# Altium schematic symbol library 常用库.SCHLIB: 15 symbols
Pins are listed as number, name and electrical type; pins without a type are passive.

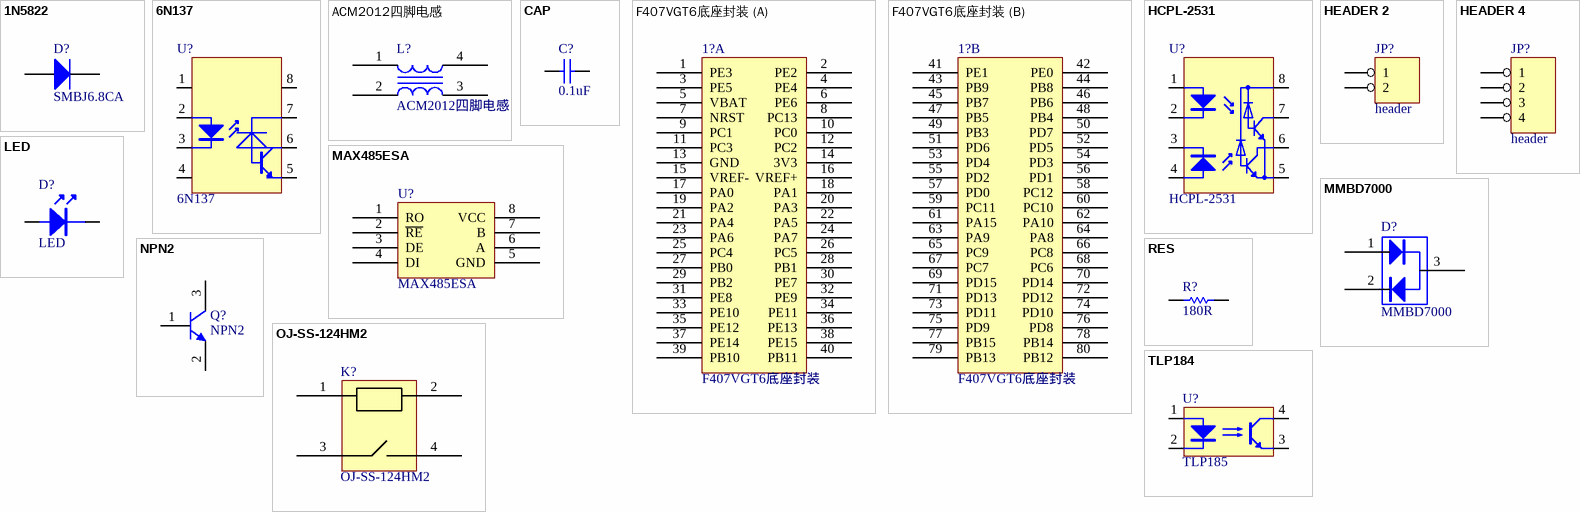
[diagram p0: symbols 1N5822 to TLP184]

## 1N5822
designator D?, comment SMBJ6.8CA
5822,5408,5819大的封装; Published: 8-Jun-2000; LatestRevisionDate: 17-Jul-2002; LatestRevisionNote: Re-released for DXP Platform.; DatasheetDocument: 1997; PackageReference: DO-35; Publisher: Altium Limited; Code_JEDEC: DO-204-AH; ComponentLink1Description: Manufacturer Link; ComponentLink1URL: http://www.fairchildsemi.com/; ComponentLink2Description: Datasheet; ComponentLink2URL: http://www.fairchildsemi.com/ds/1N%2F1N4448.pdf
footprint DIODE-0.7 (5822,5819,5408)
footprint SMA (DO-214AC(2010))
footprint SMB (DO-214AA)
pins: 1 A, 2 K

## 6N137
designator U?
footprint DIP8
footprint DIP-8-SOCKET
footprint 6N137S
footprint SOP8
pins: 1, 2, 3, 4, 5, 6, 7, 8

## ACM2012四脚电感
designator L?
footprint AMC2012
pins: 1 (power), 2 (power), 3 (power), 4 (power)

## CAP
designator C?, comment 0.1uF
Capacitor; Value: 104; Published: 8-Jun-2000; LatestRevisionDate: 17-Jul-2002; LatestRevisionNote: Re-released for DXP Platform.; PackageReference: RAD-0.3; Publisher: Altium Limited
footprint 0805_c
footprint 0603_C (Capacitor)
footprint CD1 (瓷片、独石)
pins: 1, 2

## F407VGT6底座封装
designator 1?
footprint F407VGT6底座封装
part A pins: 1 PE3, 2 PE2, 3 PE5, 4 PE4, 5 VBAT, 6 PE6, 7 NRST, 8 PC13, 9 PC1, 10 PC0, 11 PC3, 12 PC2, 13 GND, 14 3V3, 15 VREF-, 16 VREF+, 17 PA0, 18 PA1, 19 PA2, 20 PA3, 21 PA4, 22 PA5, 23 PA6, 24 PA7, 25 PC4, 26 PC5, 27 PB0, 28 PB1, 29 PB2, 30 PE7, 31 PE8, 32 PE9, 33 PE10, 34 PE11, 35 PE12, 36 PE13, 37 PE14, 38 PE15, 39 PB10, 40 PB11
part B pins: 41 PE1, 42 PE0, 43 PB9, 44 PB8, 45 PB7, 46 PB6, 47 PB5, 48 PB4, 49 PB3, 50 PD7, 51 PD6, 52 PD5, 53 PD4, 54 PD3, 55 PD2, 56 PD1, 57 PD0, 58 PC12, 59 PC11, 60 PC10, 61 PA15, 62 PA10, 63 PA9, 64 PA8, 65 PC9, 66 PC8, 67 PC7, 68 PC6, 69 PD15, 70 PD14, 71 PD13, 72 PD12, 73 PD11, 74 PD10, 75 PD9, 76 PD8, 77 PB15, 78 PB14, 79 PB13, 80 PB12

## HCPL-2531
designator U?
footprint 6n137s
footprint SOP8
pins: 1, 2, 3, 4, 5, 6, 7, 8

## HEADER 2
designator JP?, comment header
footprint header2
footprint header2HA
pins: 1, 2

## HEADER 4
designator JP?, comment header
footprint header4
pins: 1, 2, 3, 4

## LED
designator D?
LED 发光二极管
footprint 0805_LED
footprint 0603_LED
pins: 1 A, 2 K

## MAX485ESA
designator U?
footprint SOP8
pins: 1 RO (power), 2 ~{RE} (power), 3 DE (power), 4 DI (power), 5 GND (power), 6 A (power), 7 B (power), 8 VCC (power)

## MMBD7000
designator D?
footprint SOT23
pins: 1, 2, 3

## NPN2
designator Q?
贴片
footprint SOT-23-3
pins: 1 B, 2 E, 3 C

## OJ-SS-124HM2
designator K?
footprint OJ-SS-124HM2
footprint G4A-1A-PE-24V
pins: 1 (power), 2 (power), 3 (power), 4 (power)

## RES
designator R?, comment 180R
Resistor; Value: 1K; Published: 8-Jun-2000; Revision: July-2002: Re-released for DXP Platform.; Publisher: Altium Limited
footprint 0805_r
footprint 0603_R
pins: 1, 2
2 alternate drawings of the same symbol

## TLP184
designator U?, comment TLP185
footprint EL-817
footprint SOP4 (AQY211G2S)
pins: 1 "Anode", 2 "Cathode", 3 "Emitter", 4 "Collector"